# EAGLE library part CON_2X8_MALE (library Custom_Library)
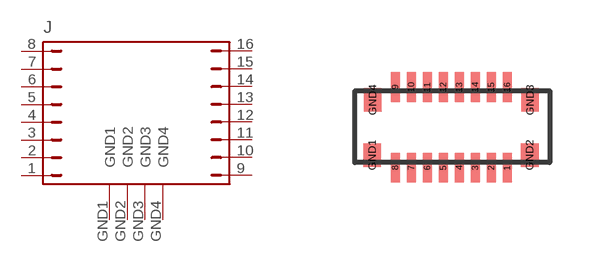
[diagram p27: symbol with the pads of CON_2X8_MALE; footprint CON_2X8_MALE]

Designator prefix J

## CON_2X8_MALE  [CON_2X8_MALE]
1  8  pas
2  7  pas
3  6  pas
4  5  pas
5  4  pas
6  3  pas
7  2  pas
8  1  pas
9  16  pas
10  15  pas
11  14  pas
12  13  pas
13  12  pas
14  11  pas
15  10  pas
16  9  pas
GND1  GND1
GND2  GND2
GND3  GND3
GND4  GND4

## Footprint CON_2X8_MALE (pad centres in mm)
smd 0.23 x 0.74: 1 2.91,0.37; 2 2.51,0.37; 3 2.11,0.37; 4 1.71,0.37; 5 1.31,0.37; 6 0.91,0.37; 7 0.51,0.37; 8 0.11,0.37; 9 0.11,2.39; 10 0.51,2.39; 11 0.91,2.39; 12 1.31,2.39; 13 1.71,2.39; 14 2.11,2.39; 15 2.51,2.39; 16 2.91,2.39
smd 0.44 x 0.59: GND1 -0.47,0.69; GND2 3.47,0.69; GND3 3.48,2.07; GND4 -0.46,2.07